# EAGLE library part MOD_MK71050 (library akita)
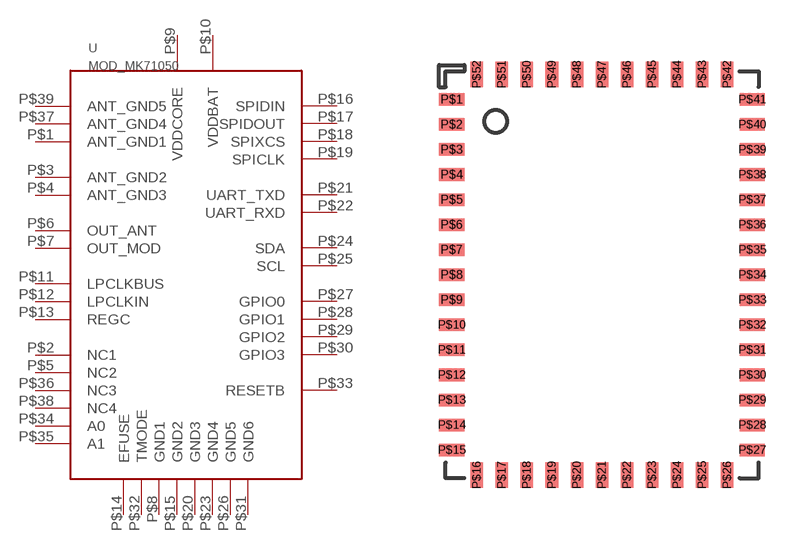
[diagram p38: symbol with the pads of LGA52; footprint LGA52]

Designator prefix -

## MOD_MK71050  [LGA52]
P$1  ANT_GND1
P$2  NC1
P$3  ANT_GND2
P$4  ANT_GND3
P$5  NC2
P$6  OUT_ANT
P$7  OUT_MOD
P$8  GND1
P$9  VDDCORE
P$10  VDDBAT
P$11  LPCLKBUS
P$12  LPCLKIN
P$13  REGC
P$14  EFUSE
P$15  GND2
P$16  SPIDIN
P$17  SPIDOUT
P$18  SPIXCS
P$19  SPICLK
P$20  GND3
P$21  UART_TXD
P$22  UART_RXD
P$23  GND4
P$24  SDA
P$25  SCL
P$26  GND5
P$27  GPIO0
P$28  GPIO1
P$29  GPIO2
P$30  GPIO3
P$31  GND6
P$32  TMODE
P$33  RESETB
P$34  A0
P$35  A1
P$36  NC3
P$37  ANT_GND4
P$38  NC4
P$39  ANT_GND5

## Footprint LGA52 (pad centres in mm)
smd 0.8 x 0.4: P$1 -4.8,5.6; P$2 -4.8,4.8; P$3 -4.8,4; P$4 -4.8,3.2; P$5 -4.8,2.4; P$6 -4.8,1.6; P$7 -4.8,0.8; P$8 -4.8,0; P$9 -4.8,-0.8; P$10 -4.8,-1.6; P$11 -4.8,-2.4; P$12 -4.8,-3.2; P$13 -4.8,-4; P$14 -4.8,-4.8; P$15 -4.8,-5.6; P$27 4.8,-5.6; P$28 4.8,-4.8; P$29 4.8,-4; P$30 4.8,-3.2; P$31 4.8,-2.4; P$32 4.8,-1.6; P$33 4.8,-0.8; P$34 4.8,0; P$35 4.8,0.8; P$36 4.8,1.6; P$37 4.8,2.4; P$38 4.8,3.2; P$39 4.8,4; P$40 4.8,4.8; P$41 4.8,5.6
smd 0.4 x 0.8: P$16 -4,-6.4; P$17 -3.2,-6.4; P$18 -2.4,-6.4; P$19 -1.6,-6.4; P$20 -0.8,-6.4; P$21 0,-6.4; P$22 0.8,-6.4; P$23 1.6,-6.4; P$24 2.4,-6.4; P$25 3.2,-6.4; P$26 4,-6.4; P$42 4,6.4; P$43 3.2,6.4; P$44 2.4,6.4; P$45 1.6,6.4; P$46 0.8,6.4; P$47 0,6.4; P$48 -0.8,6.4; P$49 -1.6,6.4; P$50 -2.4,6.4; P$51 -3.2,6.4; P$52 -4,6.4